# EAGLE library part 74LCX02MTC (library Fairchild_By_element14_Batch_1)
Low Voltage Quad 2-Input NOR Gate with 5V Tolerant Inputs
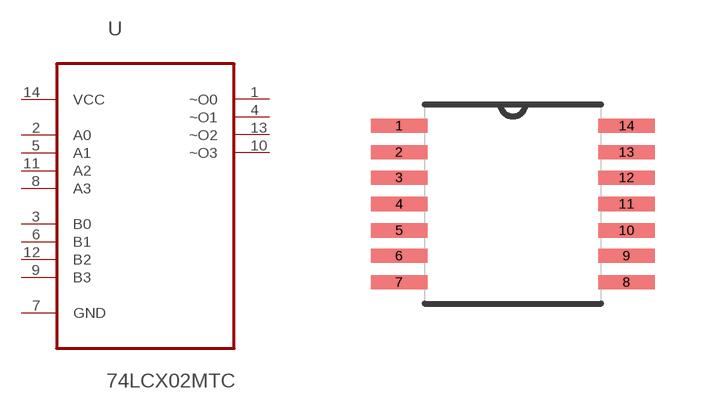
[diagram p68: symbol with the pads of SOP65P640X120-14N; footprint SOP65P640X120-14N]

Designator prefix U

## 74LCX02MTC (MPN: 74LCX02MTC; OC_FARNELL: 1607739; OC_NEWARK: 78K6274; PACKAGE: TSSOP-14; SUPPLIER: FAIRCHILD)  [SOP65P640X120-14N]
1  ~O0  out
2  A0  in
3  B0  in
4  ~O1  out
5  A1  in
6  B1  in
7  GND  pas
8  A3  in
9  B3  in
10  ~O3  out
11  A2  in
12  B2  in
13  ~O2  out
14  VCC  pwr

## Footprint SOP65P640X120-14N (pad centres in mm)
smd 1.422 x 0.356: 1 -2.845,1.956; 2 -2.845,1.295; 3 -2.845,0.66; 4 -2.845,0; 5 -2.845,-0.66; 6 -2.845,-1.295; 7 -2.845,-1.956; 8 2.845,-1.956; 9 2.845,-1.295; 10 2.845,-0.66; 11 2.845,0; 12 2.845,0.66; 13 2.845,1.295; 14 2.845,1.956